# Altium integrated library padauk.IntLib: 1 symbol
Pins are listed as number, name and electrical type; pins without a type are passive.

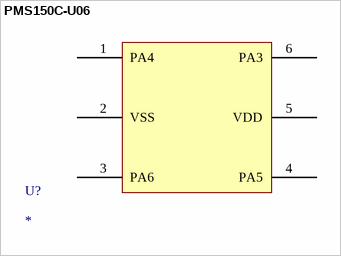
[diagram p0: symbol PMS150C-U06]

## PMS150C-U06
designator U?
PADAUK PMS150C
footprint SOT95P245X110-6N (SOT23, 6-Leads, Body 2.90x2.45mm, Pitch 0.95mm, IPC Medium Density)
pins: 1 PA4 "CIN+/CIN4-/TM2PWM", 2 VSS, 3 PA6 "CIN2-", 4 PA5 "RESET", 5 VDD, 6 PA3 "CIN1-/TM2PWM"